# Altium schematic symbol library C1206C105J5RAC.SchLib: 1 symbol
Pins are listed as number, name and electrical type; pins without a type are passive.

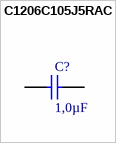
[diagram p0: symbol C1206C105J5RAC]

## C1206C105J5RAC
designator C?, comment 1,0µF
1,0µF Â±10% 50V Ceramic Capacitor X7R 1206 _3216 Metric_; MP: C1206C105J5RAC; MF: KEMET; Value: *; Package: 3216 KEMET; SnapEDA_Link: https://www.snapeda.com/parts/C1206C105K5RACTU/KEMET/view-part/357507/?ref=snap; Digi-Key_Part_Number: *; Digi-Key_Purchase_URL: *
footprint CAPC3216X110N
pins: 1, 2